# Altium schematic symbol library 6_pin_connector_eec.SchLib: 1 symbol
Pins are listed as number, name and electrical type; pins without a type are passive.

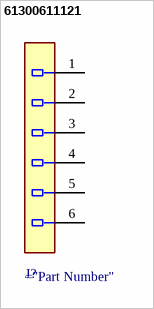
[diagram p0: symbol 61300611121]

## 61300611121
designator J?  (value not drawn)
footprint Wurth_61300611121_0
pins: 1, 2, 3, 4, 5, 6